# Altium footprint library PcbLib.PcbLib: 25 footprints (part 1 of 2)
Each footprint in its own frame and in the unit in brackets; x right, y up, seen from the top. Pads: shape width x height; smd on the part's side, far side on the other; paste and mask are expansions set on the pad; w line width, h text height; cw(c..) or ccw(c..) is an arc to the next point about the centre after c.
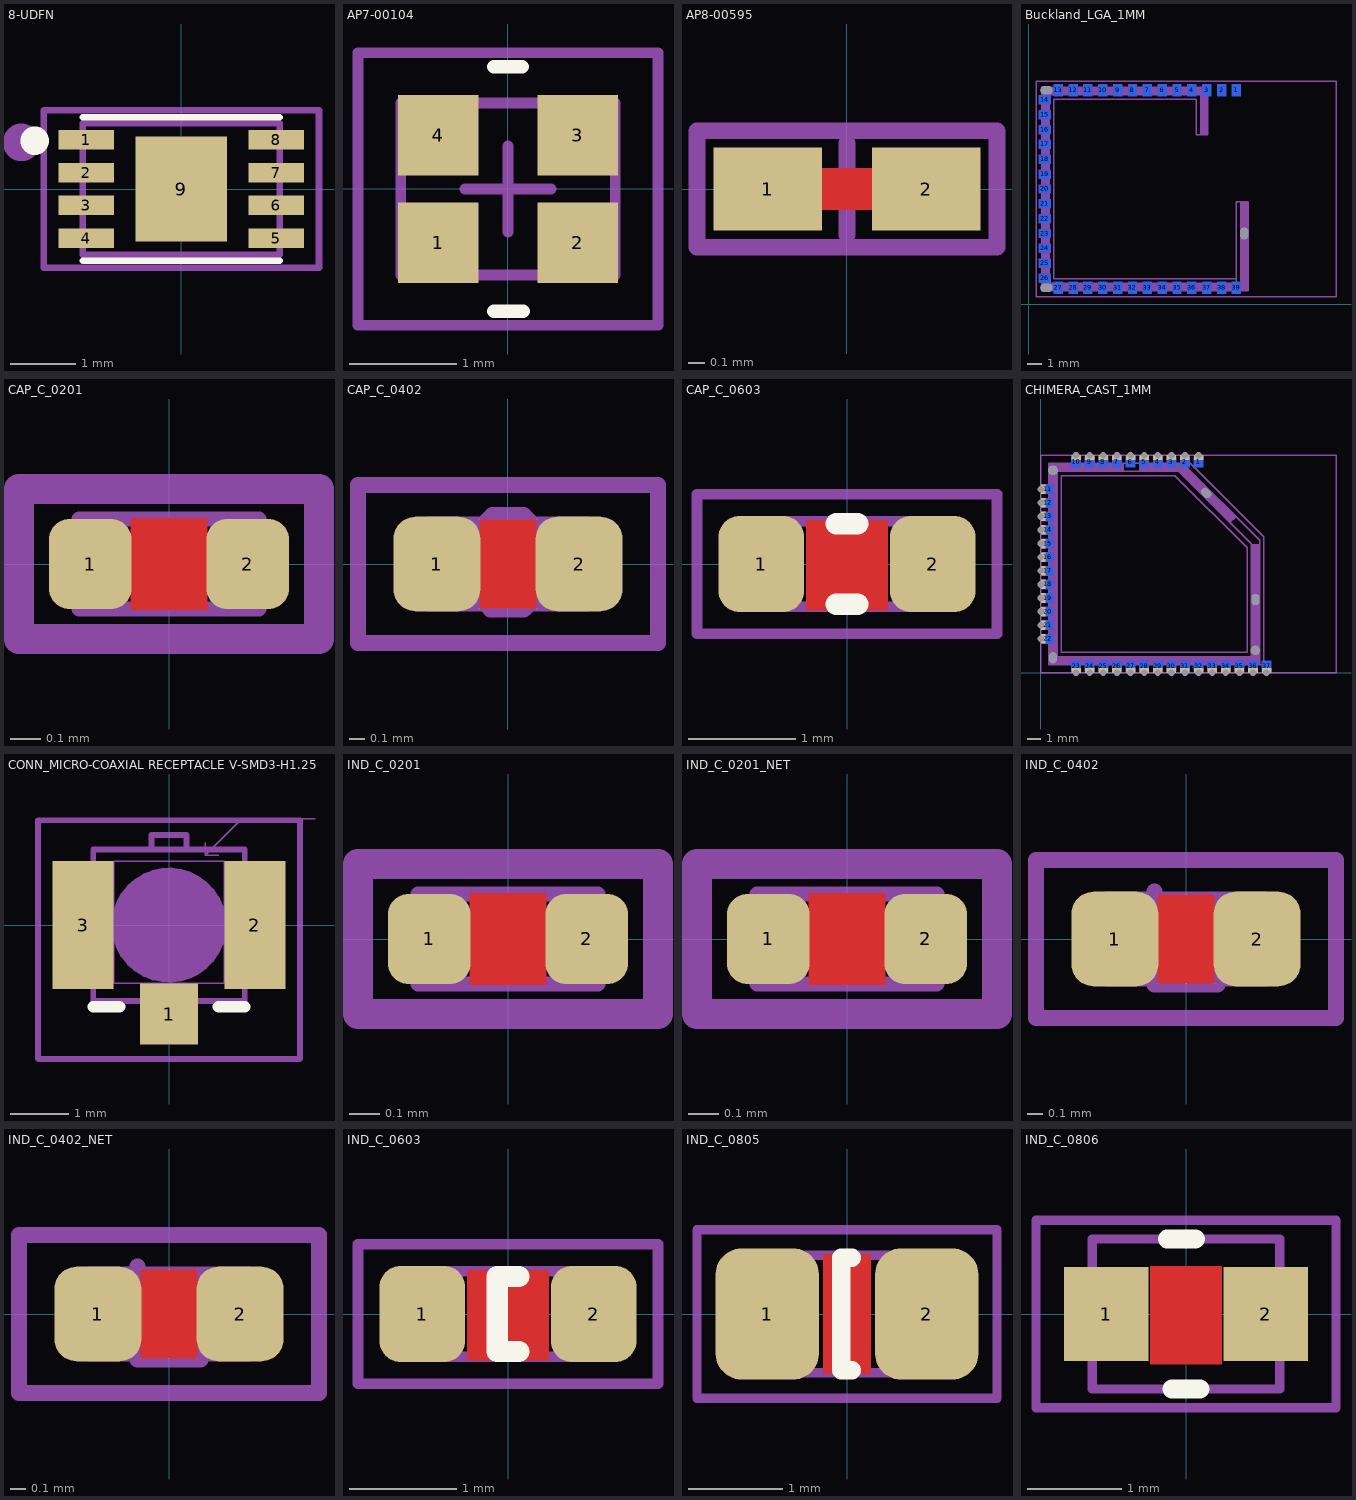
[diagram p0: the footprints below, top view; thin cyan lines are the x and y axes]

## 8-UDFN [mm] "Authentication Chip IC Networking and Communications 8-UDFN (2x3)"
height 0.6
pads (9):
  rect 0.85x0.3 smd mask+0: 1(-1.45,0.75) 2(-1.45,0.25) 3(-1.45,-0.25) 4(-1.45,-0.75) 5(1.45,-0.75) 6(1.45,-0.25) 7(1.45,0.25) 8(1.45,0.75)
  rect 1.4x1.6 smd paste-0.2 mask+0: 9(0,0)
Top Overlay:
  circle w0.381: c-2.235,0.737 r0.025
  lines w0.1: -1.501,-1.092 1.499,-1.092 ; -1.501,1.092 1.499,1.092
Mechanical 11:
  circle w0.5: c-2.438,0.711 r0.036
  lines w0.1: -1.5,-1 1.5,-1 1.5,1 -1.5,1 -1.5,-1
  text ".Designator" at 0,0 h0.18
Mechanical 15:
  lines w0.1: -2.1,-1.2 -2.1,1.2 2.1,1.2 2.1,-1.2 -2.1,-1.2
3D body "User Library-8MA2.STEP": height 0.6, standoff 0, extent -1.51,-1 1.51,1

## AP7-00104 [mm]
pads (4):
  rect 0.75x0.75 smd: 1(-0.65,-0.5) 2(0.65,-0.5) 3(0.65,0.5) 4(-0.65,0.5)
Top Overlay:
  lines w0.127: -0.13,-1.14 0.14,-1.14 ; -0.13,1.14 0.13,1.14
  text "." at -1.02,-1.23 h0.51
Mechanical 11:
  lines w0.1: -1,-0.8 1,-0.8 1,0.8 -1,0.8 -1,-0.8
  text ".Designator" at 0.299,0.074 h0.38
Mechanical 15:
  lines w0.1: -0.4,0 0.4,0 ; 0,-0.4 0,0.4 ; -1.397,-1.27 -1.397,1.27 1.397,1.27 1.397,-1.27 -1.397,-1.27
3D body "ABM11.step": height 0.59, standoff 0, extent -1,-0.8 1,0.8

## AP8-00595 [mm]
height 3.55
pads (2):
  rect 0.65x0.5 smd paste-1: 1(-0.475,0) 2(0.475,0)
Top Layer:
  lines w0.254: -0.175,0 0.2,0
Top Solder:
  rectangle: -0.9,-0.35 0.9,0.35
Mechanical 15:
  lines w0.1: -0.275,0 0.275,0 ; 0,-0.275 0,0.275 ; -0.9,-0.35 -0.9,0.35 0.9,0.35 0.9,-0.35 -0.9,-0.35

## Buckland_LGA_1MM [mm] "Chimera castellated pads at 1mm"
pads (42):
  rect 0.6x0.8 smd far side: 1(13.995,14.4) 2(12.995,14.4) 3(11.995,14.4) 4(10.995,14.4) 5(9.995,14.4) 6(8.995,14.4) 7(7.995,14.4) 8(6.995,14.4) 9(5.995,14.4) 10(4.995,14.4) 11(3.995,14.4) 12(2.995,14.4) 13(1.995,14.4) 27(1.995,1.1) 28(2.995,1.1) 29(3.995,1.1) 30(4.995,1.1) 31(5.995,1.1) 32(6.995,1.1) 33(7.995,1.1) 34(8.995,1.1) 35(9.995,1.1) 36(10.995,1.1) 37(11.995,1.1) 38(12.995,1.1) 39(13.995,1.1)
  rect 0.8x0.6 smd far side: 14(1.1,13.75) 15(1.1,12.75) 16(1.1,11.75) 17(1.1,10.75) 18(1.1,9.75) 19(1.1,8.75) 20(1.1,7.75) 21(1.1,6.75) 22(1.1,5.75) 23(1.1,4.751) 24(1.1,3.751) 25(1.1,2.751) 26(1.1,1.75)
  oval 0.7x0.3 hole 0.55 slot 0.8 at 0 deg unplated mask+0.051: ""(1.2,1.099) ""(1.2,14.401)
  oval 0.3x0.7 hole 0.55 slot 0.8 at 90 deg unplated mask+0.051: ""(14.53,4.75)
Top Paste:
  region: 0.9,14.6 0.9,0.9 1.4,0.9 1.4,14.6
  region: 0.9,1.4 14.78,1.4 14.78,0.9 0.9,0.9
  region: 14.78,0.9 14.78,6.89 14.28,6.89 14.28,0.9
  region: 12.08,14.1 0.9,14.1 0.9,14.6 12.08,14.6
  region: 12.08,14.6 12.08,11.392 11.58,11.392 11.58,14.6
Top Solder:
  region: 14.28,0.9 14.28,6.89 14.78,6.89 14.78,0.9
  region: 0.9,1.4 14.78,1.4 14.78,0.9 0.9,0.9
  region: 1.4,0.9 1.4,14.6 0.9,14.6 0.9,0.9
  region: 12.08,14.1 0.9,14.1 0.9,14.6 12.08,14.6
  region: 12.08,14.6 12.08,11.392 11.58,11.392 11.58,14.6
Bottom Solder:
  drawing of 39 lines, arcs and shapes, not listed
Mechanical 11:
  lines w0.1: 0.5,0.5 0.5,15 20.7,15 20.7,0.5 0.5,0.5
Mechanical 13:
  region: 1.4,0.9 1.4,14.6 0.9,14.6 0.9,0.9
  region: 0.9,1.4 14.78,1.4 14.78,0.9 0.9,0.9
  region: 14.28,0.9 14.28,6.89 14.78,6.89 14.78,0.9
  region: 12.08,14.1 0.9,14.1 0.9,14.6 12.08,14.6
  region: 12.08,14.6 12.08,11.392 11.58,11.392 11.58,14.6
  lines w0.1: 1.4,1.397 1.4,14.1 11.58,14.1 11.58,11.392 ; 1.4,1.4 14.28,1.4 ; 1.7,1.7 1.7,13.8 11.28,13.8 11.28,11.392 12.08,11.392 12.08,14.6 0.9,14.6 0.9,0.9 14.78,0.9 14.78,6.89 13.98,6.89 13.98,1.202 ; 1.702,1.7 13.98,1.7 ; 14.28,0.9 14.28,6.884

## CAP_C_0201 [mm] "Chip Capacitor, 2-Leads, Body 0.6x0.3mm, IPC Medium Density"
height 0.3
pads (2):
  rrect50% 0.275x0.3 smd mask+0.064: 1(-0.262,0) 2(0.262,0)
Top Layer:
  pour cut-out: -0.127,0.152 -0.127,-0.152 0.127,-0.152 0.127,0.152
Mechanical 11:
  lines w0.05: -0.3,-0.15 -0.3,0.15 0.3,0.15 0.3,-0.15 -0.3,-0.15
  text ".Designator" at -0.112,-0.076 h0.38
Mechanical 15:
  lines w0.1: -0.5,-0.25 0.5,-0.25 0.5,0.25 -0.5,0.25 -0.5,-0.25
  text "C" at -0.075,-0.1 h0.2
3D body "User Library-SMD CAPACITOR.STEP": height 0.28, standoff -0.02, extent -0.3,-0.15 0.3,0.15

## CAP_C_0402 [mm] "Chip Capacitor, 2-Leads, Body 1.0x0.5mm, IPC High Density"
height 0.5
pads (2):
  rrect50% 0.55x0.6 smd: 1(-0.45,0) 2(0.45,0)
Top Layer:
  pour cut-out: -0.178,0.279 -0.178,-0.279 0.178,-0.279 0.178,0.279
Mechanical 11:
  lines w0.1: -0.5,-0.25 -0.5,0.25 0.5,0.25 0.5,-0.25 -0.5,-0.25
  text ".Designator" at -0.4,-0.15 h0.38
Mechanical 15:
  lines w0.1: 0.2,-0.19 0.1,-0.29 -0.11,-0.29 -0.2,-0.18 -0.2,0.21 -0.1,0.31 0.1,0.31 0.2,0.21 ; -0.95,-0.5 0.95,-0.5 0.95,0.5 -0.95,0.5 -0.95,-0.5
3D body "CAP_C_0402.step": height 0.2, standoff 0, extent -0.5,-0.3 0.5,0.3

## CAP_C_0603 [mm] "Chip Capacitor, 2-Leads, Body 1.6x0.8mm, IPC Medium Density"
height 0.8
pads (2):
  rrect50% 0.8x0.9 smd: 1(-0.8,0) 2(0.8,0)
Top Layer:
  pour cut-out: -0.381,0.406 -0.381,-0.432 0.381,-0.432 0.381,0.406
Top Overlay:
  lines w0.2: -0.1,-0.375 0.1,-0.375 ; -0.1,0.375 0.1,0.375
Mechanical 11:
  lines w0.1: -0.8,-0.4 0.8,-0.4 0.8,0.4 -0.8,0.4 -0.8,-0.4
  text ".Designator" at -0.65,-0.2 h0.35
Mechanical 15:
  lines w0.1: 0.2,-0.19 0.1,-0.29 -0.1,-0.29 -0.2,-0.19 -0.2,0.21 -0.1,0.31 0.1,0.31 0.2,0.21 ; -1.4,-0.65 -1.4,0.65 1.4,0.65 1.4,-0.65 -1.4,-0.65
3D body "CAP_C_0603.step": height 0.3, standoff 0, extent -0.8,-0.4 0.8,0.4

## CHIMERA_CAST_1MM [mm] "Chimera castellated pads at 1mm"
pads (79):
  rect 0.7x0.8 smd far side: 1(11.6,15.5) 2(10.6,15.5) 3(9.6,15.5) 4(8.6,15.5) 5(7.6,15.5) 6(6.6,15.5) 7(5.6,15.5) 8(4.6,15.5) 9(3.6,15.5) 10(2.6,15.5) 23(2.6,0.5) 24(3.6,0.5) 25(4.6,0.5) 26(5.6,0.5) 27(6.6,0.5) 28(7.6,0.5) 29(8.6,0.5) 30(9.6,0.5) 31(10.6,0.5) 32(11.6,0.5) 33(12.6,0.5) 34(13.6,0.5) 35(14.6,0.5) 36(15.6,0.5) 37(16.6,0.5)
  rect 0.7x0.35 hole 0.5 copper offset 0,-0.175 mask+0: 1(11.6,16) 2(10.6,16) 3(9.6,16) 4(8.6,16) 5(7.6,16) 6(6.6,16) 7(5.6,16) 8(4.6,16) 9(3.6,16) 10(2.6,16)
  rect 0.35x0.7 hole 0.5 copper offset 0.175,0 mask+0: 11(0,13.5) 12(0,12.5) 13(0,11.5) 14(0,10.5) 15(0,9.5) 16(0,8.5) 17(0,7.5) 18(0,6.5) 19(0,5.5) 20(0,4.5) 21(0,3.5) 22(0,2.5)
  rect 0.8x0.7 smd far side: 11(0.5,13.5) 12(0.5,12.5) 13(0.5,11.5) 14(0.5,10.5) 15(0.5,9.5) 16(0.5,8.5) 17(0.5,7.5) 18(0.5,6.5) 19(0.5,5.5) 20(0.5,4.5) 21(0.5,3.5) 22(0.5,2.5)
  rect 0.7x0.35 hole 0.5 copper offset 0,0.175 mask+0: 23(2.6,0) 24(3.6,0) 25(4.6,0) 26(5.6,0) 27(6.6,0) 28(7.6,0) 29(8.6,0) 30(9.6,0) 31(10.6,0) 32(11.6,0) 33(12.6,0) 34(13.6,0) 35(14.6,0) 36(15.6,0) 37(16.6,0)
  round 0.5 hole 0.7 unplated: ""(0.9,14.892) ""(15.78,1.658)
  oval 0.3x0.7 hole 0.55 slot 0.8 at 90 deg unplated mask+0.051: ""(0.9,1.108) ""(15.78,5.386)
  oval 0.7x0.3 hole 0.55 slot 0.8 at 135 deg unplated rot 135 mask+0.051: ""(12.161,13.226)
Top Paste:
  region: 16.08,0.6 16.08,4.013 15.48,4.013 15.48,0.6
  region: 15.48,6.045 15.48,9.449 16.08,9.449 16.08,6.045
  region: 0.6,1.2 4.547,1.2 4.547,0.6 0.6,0.6
  region: 5.08,14.8 0.6,14.8 0.6,15.4 5.08,15.4
  region: 1.2,0.6 1.2,4.394 0.6,4.394 0.6,0.6
  region: 12.79,13.018 14.359,11.449 13.935,11.025 12.366,12.594
  region: 10.408,14.8 7.544,14.8 7.544,15.4 10.408,15.4
  region: 0.6,15.4 0.6,11.606 1.2,11.606 1.2,15.4
  region: 0.6,10.082 0.6,6.288 1.2,6.288 1.2,10.082
  region: 16.08,0.6 12.827,0.6 12.827,1.2 16.08,1.2
  region: 7.087,1.2 10.881,1.2 10.881,0.6 7.087,0.6
  region: 10.408,15.4 11.901,13.907 11.477,13.483 9.984,14.976
Top Solder:
  region: 10.408,14.8 7.228,14.8 7.228,15.4 10.408,15.4
  region: 10.408,15.4 14.359,11.449 13.935,11.025 9.984,14.976
  region: 1.2,0.6 1.2,15.4 0.6,15.4 0.6,0.6
  region: 6.085,14.8 0.6,14.8 0.6,15.4 6.085,15.4
  region: 0.6,1.2 16.08,1.2 16.08,0.6 0.6,0.6
  region: 15.48,0.6 15.48,9.449 16.08,9.449 16.08,0.6
Mechanical 11:
  lines w0.1: 0,0 21.7,0 21.7,16 0,16 0,0
Mechanical 13:
  region: 10.408,15.4 14.359,11.449 13.935,11.025 9.984,14.976
  region: 10.408,14.8 7.228,14.8 7.228,15.4 10.408,15.4
  region: 15.48,0.6 15.48,9.449 16.08,9.449 16.08,0.6
  region: 0.6,1.2 16.08,1.2 16.08,0.6 0.6,0.6
  region: 6.085,14.8 0.6,14.8 0.6,15.4 6.085,15.4
  region: 1.2,0.6 1.2,15.4 0.6,15.4 0.6,0.6
  lines w0.1: 10.409,15.4 16.08,9.729 16.08,0.6 ; 10.409,15.4 0.6,15.4 0.6,0.6 16.08,0.6 ; 10.409,15.4 10.99,15.4 16.38,10.01 16.38,0.6 16.08,0.6 ; 1.2,1.2 15.48,1.2 15.48,9.48 10.16,14.8 1.2,14.8 1.2,1.2 ; 1.5,1.5 15.18,1.5 15.18,9.18 9.86,14.5 1.5,14.5 1.5,1.5
3D body "WBZ451_V1P4_Shield.STEP": height 1.5, standoff -0.4, extent 1.322,0.849 15.83,15.15

## CONN_MICRO-COAXIAL RECEPTACLE V-SMD3-H1.25 [mm] "MICRO COAXIAL CONNECTOR RECEPTACLE, VERTICAL, SMD, 3PIN"
height 1.45
pads (3):
  rect 1x1.05 smd: 1(0,-1.525)
  rect 1.05x2.2 smd: 2(1.475,0) 3(-1.475,0)
Top Overlay:
  lines w0.2: -1.3,-1.4 -0.85,-1.4 ; 0.85,-1.4 1.3,-1.4
Mechanical 11:
  lines w0.1: -1.3,-0.9 -1.5,-0.9 -1.5,0.9 -1.3,0.9 ; -0.3,-1.3 -0.3,-1.5 0.3,-1.5 0.3,-1.3 ; -0.3,1.3 -0.3,1.55 0.3,1.55 0.3,1.3 ; 1.3,-0.9 1.5,-0.9 1.5,0.9 1.3,0.9 ; -1.3,-1.3 1.3,-1.3 1.3,1.3 -1.3,1.3 -1.3,-1.3
  text ".Designator" at -0.051,-0.305 h0.18
Mechanical 12:
  lines w0.025: 0.625,1.412 0.625,1.2 ; 0.85,1.2 0.625,1.2 ; 2.511,1.825 1.25,1.825 0.625,1.2 ; -0.95,-1 -0.95,1.1 0.95,1.1 0.95,-1 -0.95,-1
  text "CUT-OUT PROHIBITION AREA" at -9.5,2.388 h0.89
Mechanical 15:
  lines w0.1: -2.25,-2.288 -2.25,1.8 ; -2.238,-2.3 2.238,-2.3 ; -2.238,1.8 2.238,1.8 ; -0.25,0 0.25,0 ; 0,-0.25 0,0.25 ; 2.25,-2.288 2.25,1.8
Mechanical 21:
  circle w0.1: c0,0 r0.937
  region: 0,-0.937 -0.092,-0.937 -0.273,-0.901 -0.444,-0.83 -0.597,-0.728 -0.728,-0.597 -0.83,-0.444 -0.901,-0.273 -0.937,-0.092 -0.937,0 -0.937,0.092 -0.901,0.273 -0.83,0.444 -0.728,0.597 -0.597,0.728 -0.444,0.83 -0.273,0.901 -0.092,0.937 0,0.937 0.092,0.937 0.273,0.901 0.444,0.83 0.597,0.728 0.728,0.597 0.83,0.444 0.901,0.273 0.937,0.092 0.937,0 0.937,-0.092 0.901,-0.273 0.83,-0.444 0.728,-0.597 0.597,-0.728 0.444,-0.83 0.273,-0.901 0.092,-0.937
  lines w0.051: -0.492,0 0.492,0 ; 0,-0.492 0,0.492
  lines w0.1: -1.3,-0.9 -1.5,-0.9 -1.5,0.9 -1.3,0.9 ; -0.3,-1.3 -0.3,-1.5 0.3,-1.5 0.3,-1.3 ; -0.3,1.3 -0.3,1.55 0.3,1.55 0.3,1.3 ; 1.3,-0.9 1.5,-0.9 1.5,0.9 1.3,0.9 ; -1.3,-1.3 -1.3,1.3 1.3,1.3 1.3,-1.3 -1.3,-1.3
3D body "20279-001E-01C RECE ASSY STEP R7 ALL.STEP": height 1.25, standoff 0, extent -1.5,-1.55 1.5,1.55

## IND_C_0201 [mm] "Chip Inductor, 2-Leads, Body 0.6x0.3mm, IPC Medium Density"
height 0.3
pads (2):
  rrect50% 0.275x0.3 smd mask+0.064: 1(-0.262,0) 2(0.262,0)
Top Layer:
  pour cut-out: -0.127,0.152 -0.127,-0.152 0.127,-0.152 0.127,0.152
Mechanical 11:
  lines w0.05: -0.3,-0.15 0.3,-0.15 0.3,0.15 -0.3,0.15 -0.3,-0.15
  text ".Designator" at -0.225,-0.05 h0.38
Mechanical 15:
  lines w0.1: -0.5,-0.25 -0.5,0.25 0.5,0.25 0.5,-0.25 -0.5,-0.25
  text "L" at -0.075,-0.1 h0.2
3D body "User Library-Chip Resistor2.step": height 0.25, standoff -0.01, extent -0.3,-0.15 0.3,0.15

## IND_C_0201_NET [mm] "Chip Inductor, 2-Leads, Body 0.6x0.3mm, IPC Medium Density"
height 0.3
pads (2):
  rrect50% 0.275x0.3 smd mask+0.064: 1(-0.262,0) 2(0.262,0)
Top Layer:
  pour cut-out: -0.127,0.152 -0.127,-0.152 0.127,-0.152 0.127,0.152
  lines w0.203: -0.127,0 0.127,0
Top Solder:
  rectangle: -0.483,-0.229 0.483,0.229
Mechanical 11:
  lines w0.05: -0.3,-0.15 -0.3,0.15 0.3,0.15 0.3,-0.15 -0.3,-0.15
  text ".Designator" at -0.225,-0.05 h0.38
Mechanical 15:
  lines w0.1: -0.5,-0.25 0.5,-0.25 0.5,0.25 -0.5,0.25 -0.5,-0.25
  text "L" at -0.075,-0.1 h0.2
3D body "User Library-Chip Resistor2.step": height 0.25, standoff -0.01, extent -0.3,-0.15 0.3,0.15

## IND_C_0402 [mm]
height 0.6
pads (2):
  rrect50% 0.55x0.6 smd: 1(-0.45,0) 2(0.45,0)
Top Layer:
  pour cut-out: -0.178,0.279 -0.178,-0.279 0.178,-0.279 0.178,0.279
Mechanical 11:
  lines w0.1: -0.5,-0.25 0.5,-0.25 0.5,0.25 -0.5,0.25 -0.5,-0.25
  text ".Designator" at -0.4,-0.15 h0.3
Mechanical 15:
  lines w0.1: -0.2,0.3 -0.2,-0.29 0.2,-0.29 ; -0.95,-0.5 -0.95,0.5 0.95,0.5 0.95,-0.5 -0.95,-0.5
3D body "IND_C_0402.step": height 0.49, standoff -0.01, extent -0.5,-0.3 0.5,0.3

## IND_C_0402_NET [mm]
height 0.6
pads (2):
  rrect50% 0.55x0.6 smd: 1(-0.45,0) 2(0.45,0)
Top Layer:
  pour cut-out: -0.178,0.279 -0.178,-0.279 0.178,-0.279 0.178,0.279
  lines w0.254: -0.178,0 0.225,0
Top Solder:
  rectangle: -0.838,-0.406 0.838,0.406
Mechanical 11:
  lines w0.1: -0.5,-0.25 0.5,-0.25 0.5,0.25 -0.5,0.25 -0.5,-0.25
  text ".Designator" at -0.4,-0.15 h0.3
Mechanical 15:
  lines w0.1: -0.2,0.3 -0.2,-0.29 0.2,-0.29 ; -0.95,-0.5 -0.95,0.5 0.95,0.5 0.95,-0.5 -0.95,-0.5
3D body "IND_C_0402.step": height 0.49, standoff -0.01, extent -0.5,-0.3 0.5,0.3

## IND_C_0603 [mm] "Chip Inductor, 2-Leads, Body 1.6x0.8mm, IPC Medium Density"
height 0.8
pads (2):
  rrect50% 0.8x0.9 smd: 1(-0.8,0) 2(0.8,0)
Top Layer:
  pour cut-out: -0.381,0.406 -0.381,-0.432 0.381,-0.432 0.381,0.406
Top Overlay:
  lines w0.2: 0.1,-0.35 -0.1,-0.35 -0.1,0.35 0.1,0.35
Mechanical 11:
  lines w0.1: -0.8,-0.4 0.8,-0.4 0.8,0.4 -0.8,0.4 -0.8,-0.4
  text ".Designator" at -0.65,-0.2 h0.35
Mechanical 13:
  lines w0.1: -0.8,-0.4 -0.8,0.4 0.8,0.4 0.8,-0.4 -0.8,-0.4
Mechanical 15:
  lines w0.1: -0.2,0.3 -0.2,-0.29 0.2,-0.29 ; -1.4,-0.65 -1.4,0.65 1.4,0.65 1.4,-0.65 -1.4,-0.65
3D body "IND_C_0603.step": height 0.95, standoff 0, extent -0.8,-0.4 0.8,0.4

## IND_C_0805 [mm] "Chip Inductor, 2-Leads, Body 2.0x1.3mm, IPC Medium Density"
height 0.9
pads (2):
  rrect50% 1.1x1.4 smd: 1(-0.85,0) 2(0.85,0)
Top Layer:
  pour cut-out: -0.254,0.635 -0.254,-0.635 0.254,-0.635 0.254,0.635
Top Overlay:
  lines w0.2: 0.05,-0.6 -0.06,-0.6 -0.06,0.6 0.05,0.6
Mechanical 11:
  lines w0.1: -1,-0.625 1,-0.625 1,0.625 -1,0.625 -1,-0.625
  text ".Designator" at -0.527,-0.4 h1
Mechanical 15:
  lines w0.1: -1.6,-0.9 -1.6,0.9 1.6,0.9 1.6,-0.9 -1.6,-0.9
  text "L" at -0.2,-0.3 h0.6
3D body "IND_C_0805.step": height 0.95, standoff 0, extent -1,-0.6 1,0.6

## IND_C_0806 [mm]
pads (2):
  rect 0.9x1 smd: 1(-0.85,0) 2(0.85,0)
Top Layer:
  pour cut-out: -0.381,0.508 -0.381,-0.533 0.381,-0.533 0.381,0.508
Top Overlay:
  lines w0.2: -0.2,0.8 0.1,0.8 ; -0.15,-0.8 0.15,-0.8
Mechanical 11:
  lines w0.1: -1,-0.8 -1,0.8 1,0.8 1,-0.8 -1,-0.8
  text ".Designator" at -0.4,-0.4 h1
Mechanical 15:
  lines w0.1: -0.3,0 0.3,0 ; 0,-0.3 0,0.3 ; -1.6,-1 1.6,-1 1.6,1 -1.6,1 -1.6,-1
3D body: height 0.3, standoff 0.01, extent -1,-0.85 1,0.85
3D body: height 0.3, standoff 0, extent -1.05,-0.8 -0.55,0.8
3D body: height 0.3, standoff 0, extent 0.55,-0.8 1.05,0.8